# Altium schematic symbol library BNO085.SchLib: 1 symbol
Pins are listed as number, name and electrical type; pins without a type are passive.

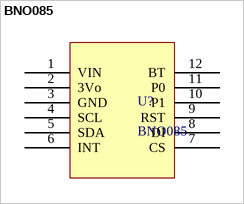
[diagram p0: symbol BNO085]

## BNO085
designator U?
Adafruit 9-DOF Orientation IMU Fusion Breakout - BNO085
footprint BNO085
pins: 1 VIN, 2 3Vo, 3 GND, 4 SCL, 5 SDA, 6 INT, 7 CS, 8 DI, 9 RST, 10 P1, 11 P0, 12 BT